# Altium schematic symbol library Molex Connectors.SchLib: 1 symbol
Pins are listed as number, name and electrical type; pins without a type are passive.

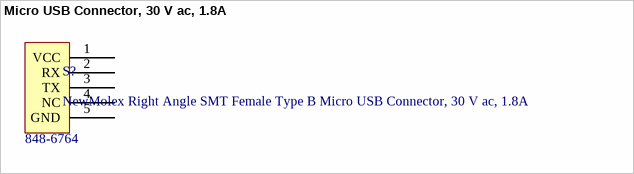
[diagram p0: symbol Micro USB Connector, 30 V ac, 1.8A]

## Micro USB Connector, 30 V ac, 1.8A
designator S?, comment NewMolex Right Angle SMT Female Type B Micro USB Connector, 30 V ac, 1.8A  RS Stock No: 848-6764
Manufacturer: Molex; Manufacturer Part No.: 105017-0001; Max Voltage: 30V; Creator: R Kanjee; Date Created: 28 February 2015; Datasheet URL: http://za.rs-online.com/web/p/micro-usb-connectors/8486764/; Max Current: 1.8A
footprint MicroUSB (MicroUSB  Molex 5Pin)
footprint MicroUSB (MicroUSB  Molex 5Pin)
pins: 1 VCC, 2 RX, 3 TX, 4 NC, 5 GND